# Altium schematic symbol library B3U-3000PM-B.SchLib: 1 symbol
Pins are listed as number, name and electrical type; pins without a type are passive.

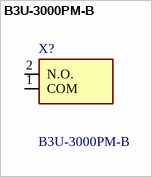
[diagram p0: symbol B3U-3000PM-B]

## B3U-3000PM-B
designator X?
Tactile Switches Side Actuate w/Boss w/out Ground Term; Manufacturer_Name: Omron Electronics; Geometry.Height: 1.35mm; Mouser Part Number: 653-B3U-3000PM-B; Mouser Price/Stock: https://www.mouser.co.uk/ProductDetail/Omron-Electronics/B3U-3000PM-B?qs=hnUcNC2tU0qDz9eschRYDA%3D%3D; Manufacturer_Part_Number: B3U-3000PM-B; Datasheet Link: *
footprint B3U3000PMB
pins: 1 COM, 2 N.O.